# EAGLE library part PIC18F25J11 (library ck_custom)
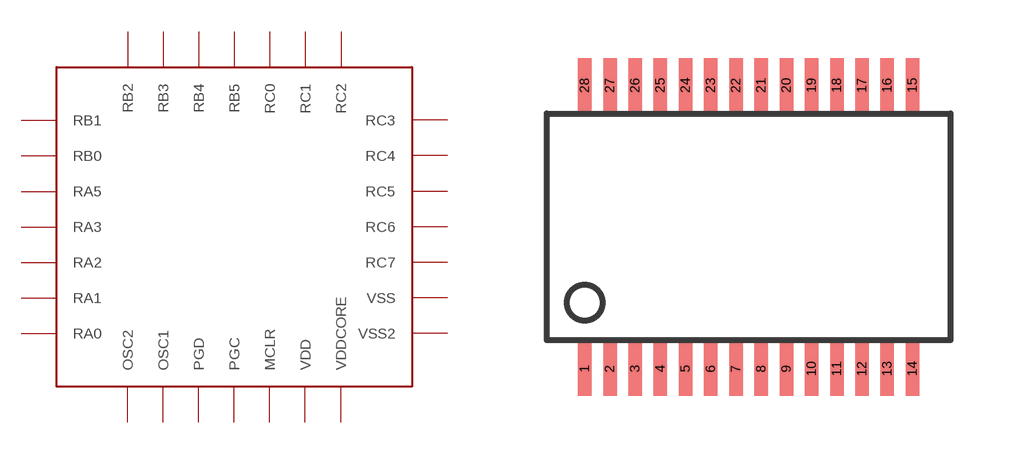
[diagram p10: symbol with the pads of SSOP28; footprint SSOP28]

Designator prefix -

## PIC18F25J11  [SSOP28]
1  MCLR
2  RA0
3  RA1
4  RA2
5  RA3
6  VDDCORE
7  RA5
8  VSS
9  OSC1
10  OSC2
11  RC0
12  RC1
13  RC2
14  RC3
15  RC4
16  RC5
17  RC6
18  RC7
19  VSS2
20  VDD
21  RB0
22  RB1
23  RB2
24  RB3
25  RB4
26  RB5
27  PGC
28  PGD

## Footprint SSOP28 (pad centres in mm)
smd 0.348 x 1.397: 1 0.855,-1.116; 2 1.505,-1.116; 3 2.155,-1.116; 4 2.805,-1.116; 5 3.455,-1.116; 6 4.105,-1.116; 7 4.755,-1.116; 8 5.405,-1.116; 9 6.055,-1.116; 10 6.705,-1.116; 11 7.355,-1.116; 12 8.005,-1.116; 13 8.655,-1.116; 14 9.305,-1.116; 15 9.305,6.196; 16 8.655,6.196; 17 8.005,6.196; 18 7.355,6.196; 19 6.705,6.196; 20 6.055,6.196; 21 5.405,6.196; 22 4.755,6.196; 23 4.105,6.196; 24 3.455,6.196; 25 2.805,6.196; 26 2.155,6.196; 27 1.505,6.196; 28 0.855,6.196